# Altium schematic symbol library CS1237.SchLib: 1 symbol
Pins are listed as number, name and electrical type; pins without a type are passive.

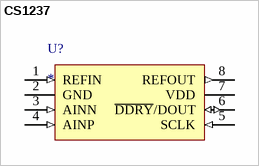
[diagram p0: symbol CS1237]

## CS1237
designator U?
24-bit Sigma-Delta ADC
footprint CS1237
pins: 1 REFIN (in), 2 GND (power), 3 AINN (in), 4 AINP (in), 5 SCLK (in), 6 ~{DDRY}/DOUT (io), 7 VDD (power), 8 REFOUT (out)